# Altium schematic symbol library Connectors.SchLib: 60 symbols (part 1 of 3)
Pins are listed as number, name and electrical type; pins without a type are passive.

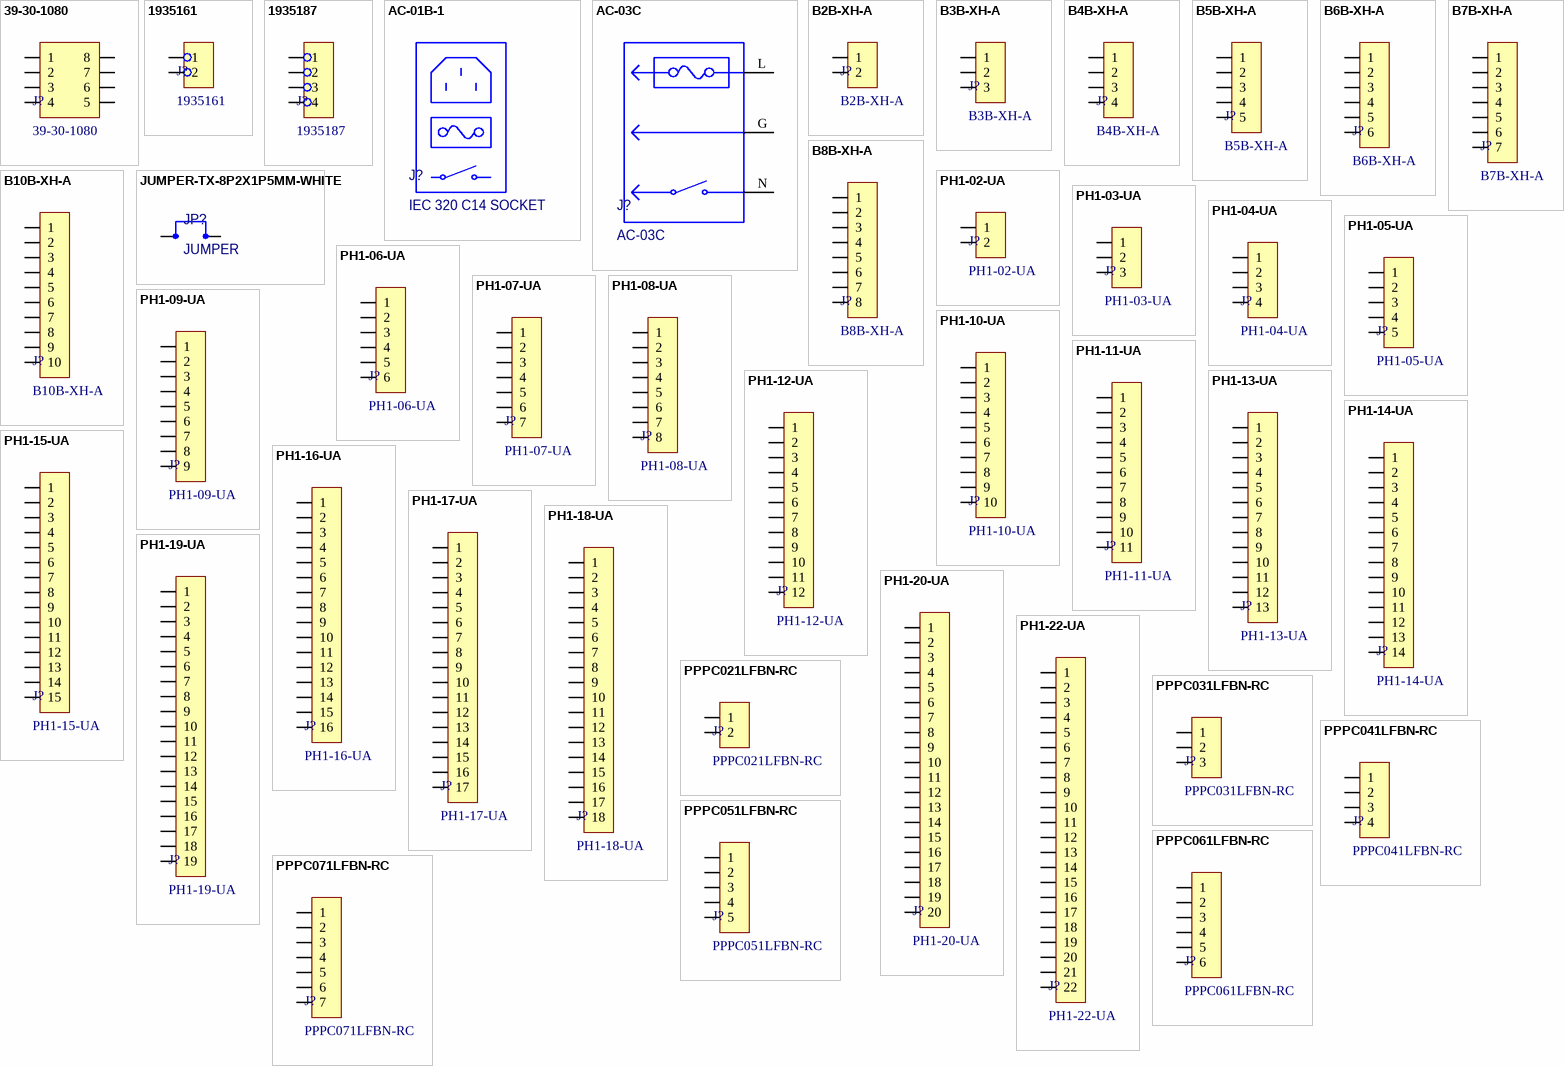
[diagram p0: symbols 39-30-1080 to PPPC071LFBN-RC]

## 39-30-1080
designator J?
CONN HEADER R/A 8POS 4.2MM; Manufacturer: Molex; Manufacturer Lifecycle Status: ACTIVE; Approvals: CSA, TUV, UL; Connector Type: Power, Rectangular; Contact Resistance: 10mΩ; Current Rating: 8A; Gender: Male; Glow Wire Compliant: Non-compliant; Insulation Resistance: 1GΩ; Max Current Rating: 5A; Max Voltage Rating (DC): 250V; Number of Circuits: 6; Number of Contacts: 8; Plating Thickness: 2.54µm; Voltage Rating: 600V; Supplier: DigiKey; Supplier Part Number: WM1354-ND; Manufacturer Part Number: 39-30-1080; RoHS: Compliant; Category: Headers and Wire Housings; Stock: 17537; Pricing: 1=0.78, 10=0.66, 100=0.5612, 500=0.50088, 1800=0.45757, 5400=0.42345, 10800=0.40325 (USD); China RoHS: Compliant; Color: Natural; Contact Gender: Male; Contact Material: Brass; Contact Plating: Tin; Country of Origin: US; Depth: 5.57mm; ELV: Compliant; Flammability Rating: UL94 V-2; Halogen Free: Low Halogen; Height: 9.9mm; Housing Material: Nylon; Lead Free: Lead Free; Lead Pitch: 4.2mm; Length: 15.65mm; Lifecycle Status: Production; Material: Nylon; Max Operating Temperature: 105°C; Min Operating Temperature: -40°C; Mounting Technology: PCB, Through Hole; Pins: 8; Number of Poles: 8; Number of Positions: 8; Number of Rows: 2; Orientation: Right Angle; Packaging: Bulk; Pitch: 4.2mm; Radiation Hardening: No; REACH SVHC: Yes; Row Spacing: 4.2mm; Schedule B: 8536694040, 8536694040|8536694040|8536694040|8536694040|8536694040; Termination: Solder; Voltage Rating (AC): 600V; Voltage Rating (DC): 600V; Working Voltage: 600V; ComponentLink1URL: https://datasheet.octopart.com:443/39-30-1080-Molex-datasheet-120074128.pdf?src-supplier=IHS; ComponentLink1Description: https://datasheet.octopart.com:443/39-30-1080-Molex-datasheet-120074128.pdf?src-supplier=IHS; ComponentLink2URL: https://datasheet.octopart.com:443/39-30-1080-Molex-datasheet-13785313.pdf?src-supplier=Sager+Electronics; ComponentLink2Description: https://datasheet.octopart.com:443/39-30-1080-Molex-datasheet-13785313.pdf?src-supplier=Sager+Electronics; ComponentLink3URL: https://datasheet.octopart.com:443/39-30-1080-Molex-datasheet-12555477.pdf?src-supplier=HQonline; ComponentLink3Description: https://datasheet.octopart.com:443/39-30-1080-Molex-datasheet-12555477.pdf?src-supplier=HQonline; ComponentLink4URL: https://datasheet.octopart.com:443/039301080-Molex-datasheet-8338717.pdf?src-supplier=HQonline; ComponentLink4Description: https://datasheet.octopart.com:443/039301080-Molex-datasheet-8338717.pdf?src-supplier=HQonline; ComponentLink5URL: https://sigma.octopart.com:443/15644801/technical_drawing/Molex-39-30-1080.pdf?src-supplier=Molex; ComponentLink5Description: https://sigma.octopart.com:443/15644801/technical_drawing/Molex-39-30-1080.pdf?src-supplier=Molex; ComponentLink6URL: https://datasheet.octopart.com:443/39-30-1080-Molex-datasheet-154749340.pdf?src-supplier=Master+Electronics; ComponentLink6Description: https://datasheet.octopart.com:443/39-30-1080-Molex-datasheet-154749340.pdf?src-supplier=Master+Electronics; ComponentLink7URL: https://datasheet.octopart.com:443/39-30-1080-Molex-datasheet-101582412.pdf?src-supplier=Farnell; ComponentLink7Description: https://datasheet.octopart.com:443/39-30-1080-Molex-datasheet-101582412.pdf?src-supplier=Farnell; ComponentLink8URL: https://datasheet.octopart.com:443/39-30-1080-Molex-datasheet-15687899.pdf?src-supplier=Farnell; ComponentLink8Description: https://datasheet.octopart.com:443/39-30-1080-Molex-datasheet-15687899.pdf?src-supplier=Farnell; ComponentLink9URL: https://datasheet.octopart.com:443/39-30-1080-Molex-datasheet-13550729.pdf?src-supplier=Farnell; ComponentLink9Description: https://datasheet.octopart.com:443/39-30-1080-Molex-datasheet-13550729.pdf?src-supplier=Farnell; ComponentLink10URL: https://datasheet.octopart.com:443/39-30-1080-Molex-datasheet-34223370.pdf?src-supplier=Electro+Sonic; ComponentLink10Description: https://datasheet.octopart.com:443/39-30-1080-Molex-datasheet-34223370.pdf?src-supplier=Electro+Sonic; ComponentLink11URL: https://datasheet.octopart.com:443/39-30-1080-Molex-datasheet-62104202.pdf?src-supplier=Electro+Sonic; ComponentLink11Description: https://datasheet.octopart.com:443/39-30-1080-Molex-datasheet-62104202.pdf?src-supplier=Electro+Sonic; ComponentLink12URL: https://datasheet.octopart.com:443/39-30-1080-Molex-datasheet-23709674.pdf?src-supplier=Electro+Sonic; ComponentLink12Description: https://datasheet.octopart.com:443/39-30-1080-Molex-datasheet-23709674.pdf?src-supplier=Electro+Sonic; ComponentLink13URL: https://datasheet.octopart.com:443/39-30-1080-Molex-datasheet-140183179.pdf?src-supplier=RS+(Formerly+Allied+Electronics); ComponentLink13Description: https://datasheet.octopart.com:443/39-30-1080-Molex-datasheet-140183179.pdf?src-supplier=RS+(Formerly+Allied+Electronics); ComponentLink14URL: https://datasheet.octopart.com:443/39-30-1080-Molex-datasheet-120148733.pdf?src-supplier=RS+(Formerly+Allied+Electronics); ComponentLink14Description: https://datasheet.octopart.com:443/39-30-1080-Molex-datasheet-120148733.pdf?src-supplier=RS+(Formerly+Allied+Electronics); ComponentLink15URL: https://datasheet.octopart.com:443/39-30-1080-Molex-datasheet-34442213.pdf?src-supplier=RS+(Formerly+Allied+Electronics); ComponentLink15Description: https://datasheet.octopart.com:443/39-30-1080-Molex-datasheet-34442213.pdf?src-supplier=RS+(Formerly+Allied+Electronics); ComponentLink16URL: https://datasheet.octopart.com:443/39-30-1080-Molex-datasheet-9783732.pdf?src-supplier=RS+(Formerly+Allied+Electronics); ComponentLink16Description: https://datasheet.octopart.com:443/39-30-1080-Molex-datasheet-9783732.pdf?src-supplier=RS+(Formerly+Allied+Electronics); ComponentLink17URL: https://datasheet.octopart.com:443/39-30-1080-Molex-datasheet-72655.pdf?src-supplier=RS+(Formerly+Allied+Electronics); ComponentLink17Description: https://datasheet.octopart.com:443/39-30-1080-Molex-datasheet-72655.pdf?src-supplier=RS+(Formerly+Allied+Electronics); ComponentLink18URL: https://datasheet.octopart.com:443/39-30-1080-Molex-datasheet-156091078.pdf?src-supplier=Jameco; ComponentLink18Description: https://datasheet.octopart.com:443/39-30-1080-Molex-datasheet-156091078.pdf?src-supplier=Jameco; ComponentLink19URL: https://datasheet.octopart.com:443/39301080-Molex-datasheet-8197183.pdf?src-supplier=Jameco; ComponentLink19Description: https://datasheet.octopart.com:443/39301080-Molex-datasheet-8197183.pdf?src-supplier=Jameco; ComponentLink20URL: https://datasheet.octopart.com:443/39-30-1080-Molex-datasheet-7269772.pdf?src-supplier=Jameco; ComponentLink20Description: https://datasheet.octopart.com:443/39-30-1080-Molex-datasheet-7269772.pdf?src-supplier=Jameco; ComponentLink21URL: https://datasheet.octopart.com:443/39301080-Molex-datasheet-137316104.pdf?src-supplier=Future+Electronics; ComponentLink21Description: https://datasheet.octopart.com:443/39301080-Molex-datasheet-137316104.pdf?src-supplier=Future+Electronics; ComponentLink22URL: https://datasheet.octopart.com:443/39-30-1080-Molex-datasheet-33002877.pdf?src-supplier=Newark; ComponentLink22Description: https://datasheet.octopart.com:443/39-30-1080-Molex-datasheet-33002877.pdf?src-supplier=Newark; ComponentLink23URL: https://datasheet.octopart.com:443/39-30-1080-Molex-datasheet-21207490.pdf?src-supplier=Newark; ComponentLink23Description: https://datasheet.octopart.com:443/39-30-1080-Molex-datasheet-21207490.pdf?src-supplier=Newark; ComponentLink24URL: https://datasheet.octopart.com:443/39-30-1080-Molex-datasheet-2405.pdf?src-supplier=Newark; ComponentLink24Description: https://datasheet.octopart.com:443/39-30-1080-Molex-datasheet-2405.pdf?src-supplier=Newark; ComponentLink25URL: https://datasheet.octopart.com:443/39-30-1080-Molex-datasheet-21395541.pdf?src-supplier=TME; ComponentLink25Description: https://datasheet.octopart.com:443/39-30-1080-Molex-datasheet-21395541.pdf?src-supplier=TME; ComponentLink26URL: https://datasheet.octopart.com:443/39-30-1080-Molex-datasheet-8361750.pdf?src-supplier=Verical; ComponentLink26Description: https://datasheet.octopart.com:443/39-30-1080-Molex-datasheet-8361750.pdf?src-supplier=Verical; ComponentLink27URL: https://datasheet.octopart.com:443/39-30-1080-Molex-datasheet-145504.pdf?src-supplier=DigiKey; ComponentLink27Description: https://datasheet.octopart.com:443/39-30-1080-Molex-datasheet-145504.pdf?src-supplier=DigiKey; ComponentLink28URL: http://sigma.octopart.com:80/15645381/rohs_certificate/Molex-39-30-1080.pdf?src-supplier=Compliance+Statements; ComponentLink28Description: http://sigma.octopart.com:80/15645381/rohs_certificate/Molex-39-30-1080.pdf?src-supplier=Compliance+Statements; ComponentLink29URL: http://sigma.octopart.com:80/reach_statement/Molex-company-74.pdf?src-supplier=Compliance+Statements; ComponentLink29Description: http://sigma.octopart.com:80/reach_statement/Molex-company-74.pdf?src-supplier=Compliance+Statements; ComponentLink30URL: http://sigma.octopart.com:80/rohs_statement/Molex-company-73.pdf?src-supplier=Compliance+Statements; ComponentLink30Description: http://sigma.octopart.com:80/rohs_statement/Molex-company-73.pdf?src-supplier=Compliance+Statements; ComponentLink31URL: http://sigma.octopart.com:80/conflict_mineral_statement/Molex-company-72.pdf?src-supplier=Compliance+Statements; ComponentLink31Description: http://sigma.octopart.com:80/conflict_mineral_statement/Molex-company-72.pdf?src-supplier=Compliance+Statements
footprint CON_5569_2X4
pins: 1, 2, 3, 4, 5, 6, 7, 8

## 1935161
designator J?
TERM BLK 2POS SIDE ENTRY 5MM PCB; Manufacturer: Phoenix Contact; Fastening Method: SCREW; Number of Decks: 1; Number of Ways: 2; Current Rating: 17.5A; Voltage Rating: 250V; Wire Cross Section: 1.5mm2; Wire/Cable Gauge: 14AWG; Safety Approval: UL; Supplier: Digikey; Supplier Part Number: 277-1667-ND; Manufacturer Part Number: 1935161; RoHS: Yes; Category: Terminal Blocks; Stock: 69926; Pricing: 1=0.5, 10=0.476, 50=0.4554, 100=0.443, 250=0.414, 500=0.38088, 1000=0.37375 (USD); Mounting Technology: Board; Terminal and Terminal Block Type: BARRIER STRIP TERMINAL BLOCK; Number of Rows: 1; RoHS Compliant: Yes; Reach SVHC Compliant: No; ComponentLink1URL: https://datasheet.ciiva.com:443/pdfs/VipMasterIC/IC/PCON/PCON-S-A0007661889/PCON-S-A0008048682-1.pdf?src-supplier=IHS+Markit; ComponentLink1Description: https://datasheet.ciiva.com:443/pdfs/VipMasterIC/IC/PCON/PCON-S-A0007661889/PCON-S-A0008048682-1.pdf?src-supplier=IHS+Markit; ComponentLink2URL: https://datasheet.ciiva.com/16047/1935161-16047247.pdf?src-supplier=Onlinecomponents.com; ComponentLink2Description: https://datasheet.ciiva.com/16047/1935161-16047247.pdf?src-supplier=Onlinecomponents.com; ComponentLink3URL: https://datasheet.ciiva.com/15169/getdatasheetpartid-177903-15169663.pdf?src-supplier=Verical; ComponentLink3Description: https://datasheet.ciiva.com/15169/getdatasheetpartid-177903-15169663.pdf?src-supplier=Verical; ComponentLink4URL: https://datasheet.ciiva.com/824/combiconcompact5-0mmseries-824222.pdf?src-supplier=Digikey; ComponentLink4Description: https://datasheet.ciiva.com/824/combiconcompact5-0mmseries-824222.pdf?src-supplier=Digikey
footprint CON_TERM_2P_5MM_PITCH
pins: 1, 2

## 1935187
designator J?
TERM BLK 4POS SIDE ENTRY 5MM PCB; Manufacturer: Phoenix Contact; Number of Contacts: 4; Max Current Rating: 16A; Voltage Rating: 250V; Current Rating: 17.5A; Number of Levels: 1; Current: 18A; Voltage: 300V; Voltage Rating (DC): 508mV; Wire/Cable Gauge: 26AWG; Wire Gauge (Min): 12AWG; Approvals: UL,VDE,CB,EAC; Supplier: Digikey; Supplier Part Number: 277-1579-ND; Manufacturer Part Number: 1935187; RoHS: Yes; Category: Terminal Blocks; Stock: 15505; Pricing: 1=0.98, 10=0.942, 50=0.901, 100=0.8763, 250=0.819, 500=0.75348, 1000=0.73938 (USD); Mounting Technology: Through Hole; Pins: 4; Contact Material: Copper,Tin; Contact Plating: 154ConductorMaterial; Housing Material: Polyamide; Color: Green; Weight: 0.134041oz; Material: Nylon; Housing Color: Green; Insulation Material: Nylon; Termination: Screw; Orientation: Straight; Package Quantity: 250; Packaging: Bulk; Number of Positions: 4; Series: COMBICON PT; Number of Rows: 1; Max Supply Voltage: 250V; Number of Poles: 4; Number of Positions Per Level: 4; Number of Circuits: 4; Number of Ways: 4; Length: 9mm; Width: 20mm; Height: 11.3mm; Wire Gauge (Max): 26AWG; Depth: 9mm; Pitch: 5mm; Stripping Length: 5mm; Radiation Hardening: No; Lead Free: Lead Free; Flammability Rating: UL94 V-0; Reach SVHC Compliant: Unknown; RoHS Compliant: Yes; ComponentLink1URL: https://datasheet.ciiva.com/16047/1935187-16047251.pdf?src-supplier=Onlinecomponents.com; ComponentLink1Description: https://datasheet.ciiva.com/16047/1935187-16047251.pdf?src-supplier=Onlinecomponents.com; ComponentLink2URL: https://datasheet.ciiva.com/823/combiconcompact5-0mmseries-823770.pdf?src-supplier=Digikey; ComponentLink2Description: https://datasheet.ciiva.com/823/combiconcompact5-0mmseries-823770.pdf?src-supplier=Digikey
footprint CON_TERM_4P_5MM_PITCH
pins: 1, 2, 3, 4

## AC-01B-1
designator J?, comment IEC 320 C14 SOCKET  (mechanical)
Manufacturer Part Number: AC-01B-1; Manufacturer: OEM

## AC-03C
designator J?
PWR ENT MOD RCPT IEC320-C14 PNL
footprint AC-INPUT-3MM-HOLE
pins: G, L, N

## B2B-XH-A
designator J?
CONN HEADER VERT 2POS 2.5MM; Manufacturer: JST; Contact Resistance: 20mΩ; Current Rating: 3A; Insulation Resistance: 1GΩ; Supplier: DigiKey; Supplier Part Number: 455-B2B-XH-A-ND; Manufacturer Part Number: B2B-XH-A; RoHS: Compliant; Category: Card Edge Connectors; Stock: 116847; Pricing: 1=0.1, 10=0.073, 100=0.0618, 500=0.05514, 1000=0.05251, 5000=0.04686, 10000=0.04463 (USD); Contact Gender: Male; Contact Material: Brass; Housing Material: Nylon; Lifecycle Status: Production; Max Operating Temperature: 85°C; Min Operating Temperature: -25°C; Pins: 2; Number of Rows: 1; Orientation: Straight; Terminal Pitch: 2.5mm; ComponentLink1URL: https://datasheet.octopart.com:443/B2B-XH-A-JST-datasheet-157850277.pdf?src-supplier=IHS; ComponentLink1Description: https://datasheet.octopart.com:443/B2B-XH-A-JST-datasheet-157850277.pdf?src-supplier=IHS; ComponentLink2URL: https://datasheet.octopart.com:443/B2B-XH-A-JST-datasheet-10026044.pdf?src-supplier=TME; ComponentLink2Description: https://datasheet.octopart.com:443/B2B-XH-A-JST-datasheet-10026044.pdf?src-supplier=TME
footprint JST-B2B-XH-A
pins: 1, 2

## B3B-XH-A
designator J?
CONN HEADER VERT 3POS 2.5MM; Manufacturer: JST; Contact Resistance: 20mΩ; Current Rating: 3A; Insulation Resistance: 1GΩ; Number of Contacts: 3; Voltage Rating: 250V; Supplier: DigiKey; Supplier Part Number: 455-2248-ND; Manufacturer Part Number: B3B-XH-A; RoHS: Compliant; Category: Card Edge Connectors; Stock: 39227; Pricing: 1=0.11, 10=0.092, 100=0.0777, 500=0.06938, 1000=0.06605, 5000=0.05895, 10000=0.05614 (USD); Contact Gender: Male; Contact Material: Tin; Height: 7mm; Housing Material: Nylon; Lifecycle Status: Production; Max Operating Temperature: 85°C; Min Operating Temperature: -25°C; Pins: 3; Number of Rows: 1; Orientation: Straight; Terminal Pitch: 2.5mm; ComponentLink1URL: https://datasheet.octopart.com:443/B3B-XH-A-JST-datasheet-12510042.pdf?src-supplier=Upverter; ComponentLink1Description: https://datasheet.octopart.com:443/B3B-XH-A-JST-datasheet-12510042.pdf?src-supplier=Upverter; ComponentLink2URL: https://datasheet.octopart.com:443/B3B-XH-A-JST-datasheet-157850277.pdf?src-supplier=IHS; ComponentLink2Description: https://datasheet.octopart.com:443/B3B-XH-A-JST-datasheet-157850277.pdf?src-supplier=IHS; ComponentLink3URL: https://datasheet.octopart.com:443/B3B-XH-A-JST-datasheet-10026044.pdf?src-supplier=TME; ComponentLink3Description: https://datasheet.octopart.com:443/B3B-XH-A-JST-datasheet-10026044.pdf?src-supplier=TME
footprint JST-B3B-XH-A
pins: 1, 2, 3

## B4B-XH-A
designator J?
CONN HEADER VERT 4POS 2.5MM; Manufacturer: JST; Contact Resistance: 20mΩ; Current Rating: 3A; Insulation Resistance: 1GΩ; Supplier: DigiKey; Supplier Part Number: 455-B4B-XH-A-ND; Manufacturer Part Number: B4B-XH-A; RoHS: Compliant; Category: Card Edge Connectors; Stock: 50423; Pricing: 1=0.14, 10=0.12, 100=0.1021, 500=0.09114, 1000=0.08679, 5000=0.07746, 10000=0.07376 (USD); Contact Gender: Male; Contact Material: Bronze, Tin; Housing Material: Nylon; Lifecycle Status: Production; Max Operating Temperature: 85°C; Min Operating Temperature: -25°C; Pins: 4; Number of Rows: 1; Orientation: Straight; Terminal Pitch: 2.5mm; ComponentLink1URL: https://datasheet.octopart.com:443/B4B-XH-A-JST-datasheet-157850277.pdf?src-supplier=IHS; ComponentLink1Description: https://datasheet.octopart.com:443/B4B-XH-A-JST-datasheet-157850277.pdf?src-supplier=IHS; ComponentLink2URL: https://datasheet.octopart.com:443/B4B-XH-A-JST-datasheet-10026044.pdf?src-supplier=TME; ComponentLink2Description: https://datasheet.octopart.com:443/B4B-XH-A-JST-datasheet-10026044.pdf?src-supplier=TME
footprint JST-B4B-XH-A
pins: 1, 2, 3, 4

## B5B-XH-A
designator J?
CONN HEADER VERT 5POS 2.5MM; Manufacturer: JST; Contact Resistance: 20mΩ; Current Rating: 3A; Insulation Resistance: 1GΩ; Supplier: DigiKey; Supplier Part Number: 455-B5B-XH-A-ND; Manufacturer Part Number: B5B-XH-A; RoHS: Compliant; Category: Card Edge Connectors; Stock: 130794; Pricing: 1=0.17, 10=0.144, 100=0.1225, 500=0.10932, 1000=0.10409, 5000=0.0929, 10000=0.08847 (USD); Contact Gender: Male; Contact Material: Bronze, Tin; Housing Material: Nylon; Lifecycle Status: Production; Max Operating Temperature: 85°C; Min Operating Temperature: -25°C; Pins: 5; Number of Rows: 1; Orientation: Straight; Terminal Pitch: 2.5mm; ComponentLink1URL: https://datasheet.octopart.com:443/B5B-XH-A-JST-datasheet-157850277.pdf?src-supplier=IHS; ComponentLink1Description: https://datasheet.octopart.com:443/B5B-XH-A-JST-datasheet-157850277.pdf?src-supplier=IHS; ComponentLink2URL: https://datasheet.octopart.com:443/B5B-XH-A-JST-datasheet-10026044.pdf?src-supplier=TME; ComponentLink2Description: https://datasheet.octopart.com:443/B5B-XH-A-JST-datasheet-10026044.pdf?src-supplier=TME
footprint JST-B5B-XH-A
pins: 1, 2, 3, 4, 5

## B6B-XH-A
designator J?
CONN HEADER VERT 6POS 2.5MM; Manufacturer: JST; Connector Type: Male Pin; Contact Resistance: 20mΩ; Current Rating: 3A; Insulation Resistance: 1GΩ; Number of Contacts: 6; Pitch: 2.4892mm; Voltage Rating: 250V; Supplier: DigiKey; Supplier Part Number: 455-B6B-XH-A-ND; Manufacturer Part Number: B6B-XH-A; RoHS: Compliant; Category: Headers and Wire Housings; Stock: 26613; Pricing: 1=0.2, 10=0.166, 100=0.141, 500=0.12586, 1000=0.11985, 5000=0.10697, 10000=0.10187 (USD); Color: Natural; Contact Gender: Male; Contact Material: Copper, Tin; Contact Plating: Lead, Tin; Fastening Type: Detent; Height: 7mm; Housing Color: Natural; Housing Material: Nylon; Lead Free: Contains Lead; Lifecycle Status: Production; Max Operating Temperature: 85°C; Manufacturer Package Identifier: B6B-XH-A; Min Operating Temperature: -25°C; Mounting Technology: Through Hole; Pins: 6; Number of Positions: 6; Number of Rows: 1; Orientation: Straight; Packaging: Bulk; Terminal Pitch: 2.5mm; Termination: Press-Fit; ComponentLink1URL: https://datasheet.octopart.com:443/B6B-XH-A-JST-datasheet-13551090.pdf?src-supplier=Upverter; ComponentLink1Description: https://datasheet.octopart.com:443/B6B-XH-A-JST-datasheet-13551090.pdf?src-supplier=Upverter; ComponentLink2URL: https://datasheet.octopart.com:443/B6B-XH-A-JST-datasheet-12516791.pdf?src-supplier=Upverter; ComponentLink2Description: https://datasheet.octopart.com:443/B6B-XH-A-JST-datasheet-12516791.pdf?src-supplier=Upverter; ComponentLink3URL: https://datasheet.octopart.com:443/B6B-XH-A-JST-datasheet-157850277.pdf?src-supplier=IHS; ComponentLink3Description: https://datasheet.octopart.com:443/B6B-XH-A-JST-datasheet-157850277.pdf?src-supplier=IHS; ComponentLink4URL: https://datasheet.octopart.com:443/B6B-XH-A-JST-datasheet-140264791.pdf?src-supplier=LKR; ComponentLink4Description: https://datasheet.octopart.com:443/B6B-XH-A-JST-datasheet-140264791.pdf?src-supplier=LKR; ComponentLink5URL: https://datasheet.octopart.com:443/B6B-XH-A-JST-datasheet-10026044.pdf?src-supplier=TME; ComponentLink5Description: https://datasheet.octopart.com:443/B6B-XH-A-JST-datasheet-10026044.pdf?src-supplier=TME
footprint JST-B6B-XH-A
pins: 1, 2, 3, 4, 5, 6

## B7B-XH-A
designator J?
CONN HEADER VERT 7POS 2.5MM; Manufacturer: JST; Contact Resistance: 20mΩ; Current Rating: 3A; Insulation Resistance: 1GΩ; Supplier: DigiKey; Supplier Part Number: 455-B7B-XH-A-ND; Manufacturer Part Number: B7B-XH-A; RoHS: Compliant; Category: Card Edge Connectors; Stock: 129225; Pricing: 1=0.23, 10=0.195, 100=0.1657, 500=0.14788, 1000=0.14081, 5000=0.12568, 10000=0.11968 (USD); Contact Gender: Male; Contact Material: Bronze, Tin; Housing Material: Nylon; Lead Free: Contains Lead; Lifecycle Status: Production; Max Operating Temperature: 85°C; Min Operating Temperature: -25°C; Pins: 7; Number of Rows: 1; Orientation: Straight; Terminal Pitch: 2.5mm; ComponentLink1URL: https://datasheet.octopart.com:443/B7B-XH-A-JST-datasheet-157850277.pdf?src-supplier=IHS; ComponentLink1Description: https://datasheet.octopart.com:443/B7B-XH-A-JST-datasheet-157850277.pdf?src-supplier=IHS; ComponentLink2URL: https://datasheet.octopart.com:443/B7B-XH-A-JST-datasheet-10026044.pdf?src-supplier=TME; ComponentLink2Description: https://datasheet.octopart.com:443/B7B-XH-A-JST-datasheet-10026044.pdf?src-supplier=TME
footprint JST-B7B-XH-A
pins: 1, 2, 3, 4, 5, 6, 7

## B8B-XH-A
designator J?
CONN HEADER VERT 8POS 2.5MM; Manufacturer: JST; Contact Resistance: 20mΩ; Current Rating: 3A; Insulation Resistance: 1GΩ; Supplier: DigiKey; Supplier Part Number: 455-B8B-XH-A-ND; Manufacturer Part Number: B8B-XH-A; RoHS: Compliant; Category: Card Edge Connectors; Stock: 5417; Pricing: 1=0.25, 10=0.214, 250=0.1704, 500=0.16226, 1000=0.1545, 5000=0.1379, 10000=0.13132 (USD); Contact Gender: Male; Contact Material: Bronze, Tin; Housing Material: Nylon; Lifecycle Status: Production; Max Operating Temperature: 85°C; Min Operating Temperature: -25°C; Pins: 8; Number of Rows: 1; Orientation: Straight; Terminal Pitch: 2.5mm; ComponentLink1URL: https://datasheet.octopart.com:443/B8B-XH-A-JST-datasheet-157850277.pdf?src-supplier=IHS; ComponentLink1Description: https://datasheet.octopart.com:443/B8B-XH-A-JST-datasheet-157850277.pdf?src-supplier=IHS; ComponentLink2URL: https://datasheet.octopart.com:443/B8B-XH-A-JST-datasheet-10026044.pdf?src-supplier=TME; ComponentLink2Description: https://datasheet.octopart.com:443/B8B-XH-A-JST-datasheet-10026044.pdf?src-supplier=TME
footprint JST-B8B-XH-A
pins: 1, 2, 3, 4, 5, 6, 7, 8

## B10B-XH-A
designator J?
CONN HEADER VERT 10POS 2.5MM; Manufacturer: JST; Contact Resistance: 20mΩ; Current Rating: 3A; Insulation Resistance: 1GΩ; Supplier: DigiKey; Supplier Part Number: 455-B10B-XH-A-ND; Manufacturer Part Number: B10B-XH-A; RoHS: Compliant; Category: Card Edge Connectors; Stock: 6118; Pricing: 1=0.32, 10=0.273, 250=0.2172, 500=0.2068, 1000=0.19692, 5000=0.17577, 10000=0.16738 (USD); Contact Gender: Male; Contact Material: Bronze, Tin; Housing Material: Nylon; Lifecycle Status: Production; Max Operating Temperature: 85°C; Min Operating Temperature: -25°C; Pins: 10; Number of Rows: 1; Orientation: Straight; Terminal Pitch: 2.5mm; ComponentLink1URL: https://datasheet.octopart.com:443/B10B-XH-A-JST-datasheet-157850277.pdf?src-supplier=IHS; ComponentLink1Description: https://datasheet.octopart.com:443/B10B-XH-A-JST-datasheet-157850277.pdf?src-supplier=IHS
footprint JST-B10B-XH-A
pins: 1, 2, 3, 4, 5, 6, 7, 8, 9, 10

## JUMPER-TX-8P2X1P5MM-WHITE
designator JP?, comment JUMPER
JUMPER SMD TX 8.2X1.5MM WHITE; Manufacturer: OEM; Manufacturer Part Number: None
footprint JUMPER_TX_8P2MM
pins: 1, 2

## PH1-02-UA
designator J?
CONN HEADER VERT 2POS 2.54MM; Manufacturer: Adam Equipment; Supplier: Digikey; Supplier Part Number: 2057-PH1-02-UA-ND; Manufacturer Part Number: PH1-02-UA; RoHS: Yes; Category: Connectors; Stock: 110214; Pricing: 1=0.1, 10=0.032, 100=0.0244, 500=0.02018, 1000=0.01863, 5000=0.01554, 10000=0.0144 (USD); ComponentLink1URL: https://datasheet.ciiva.com/16392/ph1-xx-ua-16392701.pdf?src-supplier=Future+Electronics; ComponentLink1Description: https://datasheet.ciiva.com/16392/ph1-xx-ua-16392701.pdf?src-supplier=Future+Electronics; ComponentLink2URL: https://datasheet.ciiva.com/5160/page-292-295-12946-5160830.pdf?src-supplier=Mouser; ComponentLink2Description: https://datasheet.ciiva.com/5160/page-292-295-12946-5160830.pdf?src-supplier=Mouser
footprint CON_HDR_MAL_VERT_2P_2P54_PITCH
pins: 1, 2

## PH1-03-UA
designator J?
CONN HEADER VERT 3POS 2.54MM; Manufacturer: Adam Equipment; Supplier: Digikey; Supplier Part Number: 2057-PH1-03-UA-ND; Manufacturer Part Number: PH1-03-UA; RoHS: Yes; Category: Headers and Wire Housings; Stock: 33737; Pricing: 1=0.1, 10=0.037, 100=0.0311, 500=0.02772, 1000=0.0264, 5000=0.02356, 10000=0.02243 (USD); ComponentLink1URL: https://datasheet.ciiva.com/16396/catpg240-254-16396026.pdf?src-supplier=Future+Electronics; ComponentLink1Description: https://datasheet.ciiva.com/16396/catpg240-254-16396026.pdf?src-supplier=Future+Electronics
footprint CON_HDR_MAL_VERT_3P_2P54_PITCH
pins: 1, 2, 3

## PH1-04-UA
designator J?
CONN HEADER VERT 4POS 2.54MM; Manufacturer: Adam Tech; Contact Resistance: 20mΩ; Current Rating: 3A; Insulation Resistance: 5GΩ; Number of Positions: 4; Supplier: DigiKey; Supplier Part Number: 2057-PH1-04-UA-ND; Manufacturer Part Number: PH1-04-UA; RoHS: Compliant; Category: Card Edge Connectors; Stock: 26184; Pricing: 1=0.1, 10=0.05, 100=0.0424, 500=0.03784, 1000=0.03602, 5000=0.03215, 10000=0.03061 (USD); Contact Gender: Male; Contact Material: Brass; Lead Free: Lead Free; Lifecycle Status: Production; Pins: 4; Number of Rows: 1; Pitch: 2.54mm; REACH SVHC: Yes; Terminal Pitch: 2.54mm; Termination: Through Hole; ComponentLink1URL: https://datasheet.octopart.com:443/PH1-04-UA-Adam-Tech-datasheet-21182886.pdf?src-supplier=IHS; ComponentLink1Description: https://datasheet.octopart.com:443/PH1-04-UA-Adam-Tech-datasheet-21182886.pdf?src-supplier=IHS; ComponentLink2URL: https://datasheet.octopart.com:443/PH1-04-UA-Adam-Tech-datasheet-12339966.pdf?src-supplier=Future+Electronics; ComponentLink2Description: https://datasheet.octopart.com:443/PH1-04-UA-Adam-Tech-datasheet-12339966.pdf?src-supplier=Future+Electronics; ComponentLink3URL: https://datasheet.octopart.com:443/PH1-04-UA-Adam-Tech-datasheet-502038.pdf?src-supplier=Future+Electronics; ComponentLink3Description: https://datasheet.octopart.com:443/PH1-04-UA-Adam-Tech-datasheet-502038.pdf?src-supplier=Future+Electronics; ComponentLink4URL: https://datasheet.octopart.com:443/PH1-04-UA-Adam-Tech-datasheet-189096092.pdf?src-supplier=Master+Electronics; ComponentLink4Description: https://datasheet.octopart.com:443/PH1-04-UA-Adam-Tech-datasheet-189096092.pdf?src-supplier=Master+Electronics; ComponentLink5URL: http://sigma.octopart.com:80/reach_statement/Adam-Tech-company-23.pdf?src-supplier=Compliance+Statements; ComponentLink5Description: http://sigma.octopart.com:80/reach_statement/Adam-Tech-company-23.pdf?src-supplier=Compliance+Statements; ComponentLink6URL: http://sigma.octopart.com:80/rohs_statement/Adam-Tech-company-22.pdf?src-supplier=Compliance+Statements; ComponentLink6Description: http://sigma.octopart.com:80/rohs_statement/Adam-Tech-company-22.pdf?src-supplier=Compliance+Statements
footprint CON_HDR_MAL_VERT_4P_2P54_PITCH
pins: 1, 2, 3, 4

## PH1-05-UA
designator J?
CONN HEADER VERT 5POS 2.54MM; Manufacturer: Adam Tech; Contact Resistance: 20mΩ; Current Rating: 3A; Insulation Resistance: 5GΩ; Number of Positions: 5; Supplier: DigiKey; Supplier Part Number: 2057-PH1-05-UA-ND; Manufacturer Part Number: PH1-05-UA; RoHS: Compliant; Category: Card Edge Connectors; Stock: 16358; Pricing: 1=0.1, 10=0.071, 100=0.0603, 500=0.05382, 1000=0.05125, 5000=0.04574, 10000=0.04355 (USD); Contact Gender: Male; Contact Material: Brass; Lead Free: Lead Free; Lifecycle Status: Production; Mounting Technology: Through Hole; Pins: 5; Number of Rows: 1; Pitch: 2.54mm; REACH SVHC: Yes; Schedule B: 8536694040, 8536694040|8536694040|8536694040|8536694040|8536694040; Terminal Pitch: 2.54mm; ComponentLink1URL: https://datasheet.octopart.com:443/PH1-05-UA-Adam-Tech-datasheet-21182886.pdf?src-supplier=IHS; ComponentLink1Description: https://datasheet.octopart.com:443/PH1-05-UA-Adam-Tech-datasheet-21182886.pdf?src-supplier=IHS; ComponentLink2URL: https://datasheet.octopart.com:443/PH1-05-UA-Adam-Tech-datasheet-500427.pdf?src-supplier=Future+Electronics; ComponentLink2Description: https://datasheet.octopart.com:443/PH1-05-UA-Adam-Tech-datasheet-500427.pdf?src-supplier=Future+Electronics; ComponentLink3URL: https://datasheet.octopart.com:443/PH1-05-UA-Adam-Tech-datasheet-189096092.pdf?src-supplier=Master+Electronics; ComponentLink3Description: https://datasheet.octopart.com:443/PH1-05-UA-Adam-Tech-datasheet-189096092.pdf?src-supplier=Master+Electronics; ComponentLink4URL: http://sigma.octopart.com:80/rohs_statement/Adam-Tech-company-22.pdf?src-supplier=Compliance+Statements; ComponentLink4Description: http://sigma.octopart.com:80/rohs_statement/Adam-Tech-company-22.pdf?src-supplier=Compliance+Statements; ComponentLink5URL: http://sigma.octopart.com:80/reach_statement/Adam-Tech-company-23.pdf?src-supplier=Compliance+Statements; ComponentLink5Description: http://sigma.octopart.com:80/reach_statement/Adam-Tech-company-23.pdf?src-supplier=Compliance+Statements
footprint CON_HDR_MAL_VERT_5P_2P54_PITCH
pins: 1, 2, 3, 4, 5

## PH1-06-UA
designator J?
CONN HEADER VERT 6POS 2.54MM; Manufacturer: Adam Tech; Contact Resistance: 20mΩ; Current Rating: 3A; Insulation Resistance: 5GΩ; Number of Contacts: 6; Supplier: DigiKey; Supplier Part Number: 2057-PH1-06-UA-ND; Manufacturer Part Number: PH1-06-UA; RoHS: Compliant; Category: Card Edge Connectors; Stock: 7020; Pricing: 1=0.1, 10=0.071, 100=0.0603, 500=0.05382, 1000=0.05125, 5000=0.04574, 10000=0.04355 (USD); Contact Gender: Male; Contact Material: Brass; Contact Plating: Gold; Lead Free: Lead Free; Lifecycle Status: Production; Mounting Technology: Through Hole; Pins: 6; Number of Positions: 6; Number of Rows: 1; Pitch: 2.54mm; REACH SVHC: Yes; Terminal Pitch: 2.54mm; ComponentLink1URL: https://datasheet.octopart.com:443/PH1-06-UA-Adam-Tech-datasheet-21182886.pdf?src-supplier=IHS; ComponentLink1Description: https://datasheet.octopart.com:443/PH1-06-UA-Adam-Tech-datasheet-21182886.pdf?src-supplier=IHS; ComponentLink2URL: https://datasheet.octopart.com:443/PH1-06-UA-Adam-Tech-datasheet-12510360.pdf?src-supplier=Future+Electronics; ComponentLink2Description: https://datasheet.octopart.com:443/PH1-06-UA-Adam-Tech-datasheet-12510360.pdf?src-supplier=Future+Electronics; ComponentLink3URL: https://datasheet.octopart.com:443/PH1-06-UA-Adam-Tech-datasheet-502038.pdf?src-supplier=Future+Electronics; ComponentLink3Description: https://datasheet.octopart.com:443/PH1-06-UA-Adam-Tech-datasheet-502038.pdf?src-supplier=Future+Electronics; ComponentLink4URL: https://datasheet.octopart.com:443/PH1-06-UA-Adam-Tech-datasheet-189096092.pdf?src-supplier=Master+Electronics; ComponentLink4Description: https://datasheet.octopart.com:443/PH1-06-UA-Adam-Tech-datasheet-189096092.pdf?src-supplier=Master+Electronics; ComponentLink5URL: http://sigma.octopart.com:80/reach_statement/Adam-Tech-company-23.pdf?src-supplier=Compliance+Statements; ComponentLink5Description: http://sigma.octopart.com:80/reach_statement/Adam-Tech-company-23.pdf?src-supplier=Compliance+Statements; ComponentLink6URL: http://sigma.octopart.com:80/rohs_statement/Adam-Tech-company-22.pdf?src-supplier=Compliance+Statements; ComponentLink6Description: http://sigma.octopart.com:80/rohs_statement/Adam-Tech-company-22.pdf?src-supplier=Compliance+Statements
footprint CON_HDR_MAL_VERT_6P_2P54_PITCH
pins: 1, 2, 3, 4, 5, 6

## PH1-07-UA
designator J?
CONN HEADER VERT 7POS 2.54MM; Manufacturer: Adam Tech; Contact Resistance: 20mΩ; Current Rating: 3A; Insulation Resistance: 5GΩ; Number of Contacts: 7; Supplier: DigiKey; Supplier Part Number: 2057-PH1-07-UA-ND; Manufacturer Part Number: PH1-07-UA; RoHS: Compliant; Category: Card Edge Connectors; Stock: 22626; Pricing: 1=0.1, 10=0.085, 100=0.0719, 500=0.06416, 1000=0.0611, 5000=0.05453, 10000=0.05192 (USD); Contact Gender: Male; Contact Material: Brass; Contact Plating: Gold; Lead Free: Lead Free; Lifecycle Status: Production; Pins: 7; Number of Rows: 1; REACH SVHC: Yes; Schedule B: 8536694040; Terminal Pitch: 2.54mm; ComponentLink1URL: https://datasheet.octopart.com:443/PH1-07-UA-Adam-Tech-datasheet-21182886.pdf?src-supplier=IHS; ComponentLink1Description: https://datasheet.octopart.com:443/PH1-07-UA-Adam-Tech-datasheet-21182886.pdf?src-supplier=IHS; ComponentLink2URL: https://datasheet.octopart.com:443/PH1-07-UA-Adam-Tech-datasheet-502038.pdf?src-supplier=Future+Electronics; ComponentLink2Description: https://datasheet.octopart.com:443/PH1-07-UA-Adam-Tech-datasheet-502038.pdf?src-supplier=Future+Electronics; ComponentLink3URL: https://datasheet.octopart.com:443/PH1-07-UA-Adam-Tech-datasheet-189096092.pdf?src-supplier=Master+Electronics; ComponentLink3Description: https://datasheet.octopart.com:443/PH1-07-UA-Adam-Tech-datasheet-189096092.pdf?src-supplier=Master+Electronics; ComponentLink4URL: http://sigma.octopart.com:80/reach_statement/Adam-Tech-company-23.pdf?src-supplier=Compliance+Statements; ComponentLink4Description: http://sigma.octopart.com:80/reach_statement/Adam-Tech-company-23.pdf?src-supplier=Compliance+Statements; ComponentLink5URL: http://sigma.octopart.com:80/rohs_statement/Adam-Tech-company-22.pdf?src-supplier=Compliance+Statements; ComponentLink5Description: http://sigma.octopart.com:80/rohs_statement/Adam-Tech-company-22.pdf?src-supplier=Compliance+Statements
footprint CON_HDR_MAL_VERT_7P_2P54_PITCH
pins: 1, 2, 3, 4, 5, 6, 7

## PH1-08-UA
designator J?
CONN HEADER VERT 8POS 2.54MM; Manufacturer: Adam Tech; Contact Resistance: 20mΩ; Current Rating: 3A; Insulation Resistance: 5GΩ; Supplier: DigiKey; Supplier Part Number: 2057-PH1-08-UA-ND; Manufacturer Part Number: PH1-08-UA; RoHS: Compliant; Category: Card Edge Connectors; Stock: 3045; Pricing: 1=0.11, 10=0.097, 100=0.0823, 500=0.0734, 1000=0.06989, 5000=0.06237, 10000=0.05939 (USD); Contact Gender: Male; Contact Material: Brass; Lifecycle Status: Production; Pins: 8; Number of Rows: 1; REACH SVHC: Yes; Schedule B: 8536694040, 8536694040|8536694040|8536694040|8536694040|8536694040; Terminal Pitch: 2.54mm; ComponentLink1URL: https://datasheet.octopart.com:443/PH1-08-UA-Adam-Tech-datasheet-21182886.pdf?src-supplier=IHS; ComponentLink1Description: https://datasheet.octopart.com:443/PH1-08-UA-Adam-Tech-datasheet-21182886.pdf?src-supplier=IHS; ComponentLink2URL: https://datasheet.octopart.com:443/PH1-08-UA-Adam-Tech-datasheet-189096092.pdf?src-supplier=Master+Electronics; ComponentLink2Description: https://datasheet.octopart.com:443/PH1-08-UA-Adam-Tech-datasheet-189096092.pdf?src-supplier=Master+Electronics; ComponentLink3URL: http://sigma.octopart.com:80/reach_statement/Adam-Tech-company-23.pdf?src-supplier=Compliance+Statements; ComponentLink3Description: http://sigma.octopart.com:80/reach_statement/Adam-Tech-company-23.pdf?src-supplier=Compliance+Statements; ComponentLink4URL: http://sigma.octopart.com:80/rohs_statement/Adam-Tech-company-22.pdf?src-supplier=Compliance+Statements; ComponentLink4Description: http://sigma.octopart.com:80/rohs_statement/Adam-Tech-company-22.pdf?src-supplier=Compliance+Statements
footprint CON_HDR_MAL_VERT_8P_2P54_PITCH
pins: 1, 2, 3, 4, 5, 6, 7, 8

## PH1-09-UA
designator J?
CONN HEADER VERT 9POS 2.54MM; Manufacturer: Adam Tech; Contact Resistance: 20mΩ; Current Rating: 3A; Insulation Resistance: 5GΩ; Supplier: DigiKey; Supplier Part Number: 2057-PH1-09-UA-ND; Manufacturer Part Number: PH1-09-UA; RoHS: Compliant; Category: Card Edge Connectors; Stock: 11695; Pricing: 1=0.17, 10=0.144, 100=0.1221, 500=0.109, 1000=0.10379, 5000=0.09264, 10000=0.08821 (USD); Contact Gender: Male; Contact Material: Brass; Lifecycle Status: Production; Pins: 9; Number of Rows: 1; REACH SVHC: Yes; Schedule B: 8536694040, 8536694040|8536694040|8536694040|8536694040|8536694040; Terminal Pitch: 2.54mm; ComponentLink1URL: https://datasheet.octopart.com:443/PH1-09-UA-Adam-Tech-datasheet-21182886.pdf?src-supplier=IHS; ComponentLink1Description: https://datasheet.octopart.com:443/PH1-09-UA-Adam-Tech-datasheet-21182886.pdf?src-supplier=IHS; ComponentLink2URL: https://datasheet.octopart.com:443/PH1-09-UA-Adam-Tech-datasheet-189096092.pdf?src-supplier=Master+Electronics; ComponentLink2Description: https://datasheet.octopart.com:443/PH1-09-UA-Adam-Tech-datasheet-189096092.pdf?src-supplier=Master+Electronics; ComponentLink3URL: http://sigma.octopart.com:80/reach_statement/Adam-Tech-company-23.pdf?src-supplier=Compliance+Statements; ComponentLink3Description: http://sigma.octopart.com:80/reach_statement/Adam-Tech-company-23.pdf?src-supplier=Compliance+Statements; ComponentLink4URL: http://sigma.octopart.com:80/rohs_statement/Adam-Tech-company-22.pdf?src-supplier=Compliance+Statements; ComponentLink4Description: http://sigma.octopart.com:80/rohs_statement/Adam-Tech-company-22.pdf?src-supplier=Compliance+Statements
footprint CON_HDR_MAL_VERT_9P_2P54_PITCH
pins: 1, 2, 3, 4, 5, 6, 7, 8, 9

## PH1-10-UA
designator J?
CONN HEADER VERT 10POS 2.54MM; Manufacturer: Adam Equipment; Supplier: Digikey; Supplier Part Number: 2057-PH1-10-UA-ND; Manufacturer Part Number: PH1-10-UA; RoHS: Yes; Category: Connectors; Stock: 12245; Pricing: 1=0.13, 10=0.114, 100=0.0969, 500=0.08648, 1000=0.08235, 5000=0.07349, 10000=0.06999 (USD); ComponentLink1URL: https://datasheet.ciiva.com/13676/page-292-295-13676646.pdf?src-supplier=Mouser; ComponentLink1Description: https://datasheet.ciiva.com/13676/page-292-295-13676646.pdf?src-supplier=Mouser
footprint CON_HDR_MAL_VERT_10P_2P54_PITCH
pins: 1, 2, 3, 4, 5, 6, 7, 8, 9, 10

## PH1-11-UA
designator J?
CONN HEADER VERT 11POS 2.54MM; Manufacturer: Adam Tech; Contact Resistance: 20mΩ; Current Rating: 3A; Insulation Resistance: 5GΩ; Supplier: DigiKey; Supplier Part Number: 2057-PH1-11-UA-ND; Manufacturer Part Number: PH1-11-UA; RoHS: Compliant; Category: Card Edge Connectors; Stock: 2051; Pricing: 1=0.14, 10=0.122, 100=0.1032, 500=0.09212, 1000=0.08771, 5000=0.07828, 10000=0.07454 (USD); Contact Gender: Male; Contact Material: Brass; Lifecycle Status: Production; Pins: 11; Number of Rows: 1; REACH SVHC: Yes; Schedule B: 8536694040; Terminal Pitch: 2.54mm; ComponentLink1URL: https://datasheet.octopart.com:443/PH1-11-UA-Adam-Tech-datasheet-21182886.pdf?src-supplier=IHS; ComponentLink1Description: https://datasheet.octopart.com:443/PH1-11-UA-Adam-Tech-datasheet-21182886.pdf?src-supplier=IHS; ComponentLink2URL: https://datasheet.octopart.com:443/PH1-11-UA-Adam-Tech-datasheet-189096092.pdf?src-supplier=Master+Electronics; ComponentLink2Description: https://datasheet.octopart.com:443/PH1-11-UA-Adam-Tech-datasheet-189096092.pdf?src-supplier=Master+Electronics; ComponentLink3URL: http://sigma.octopart.com:80/rohs_statement/Adam-Tech-company-22.pdf?src-supplier=Compliance+Statements; ComponentLink3Description: http://sigma.octopart.com:80/rohs_statement/Adam-Tech-company-22.pdf?src-supplier=Compliance+Statements; ComponentLink4URL: http://sigma.octopart.com:80/reach_statement/Adam-Tech-company-23.pdf?src-supplier=Compliance+Statements; ComponentLink4Description: http://sigma.octopart.com:80/reach_statement/Adam-Tech-company-23.pdf?src-supplier=Compliance+Statements
footprint CON_HDR_MAL_VERT_11P_2P54_PITCH
pins: 1, 2, 3, 4, 5, 6, 7, 8, 9, 10, 11

## PH1-12-UA
designator J?
CONN HEADER VERT 12POS 2.54MM; Manufacturer: Adam Tech; Contact Resistance: 20mΩ; Current Rating: 3A; Insulation Resistance: 5GΩ; Supplier: DigiKey; Supplier Part Number: 2057-PH1-12-UA-ND; Manufacturer Part Number: PH1-12-UA; RoHS: Compliant; Category: Card Edge Connectors; Stock: 4637; Pricing: 1=0.16, 10=0.134, 100=0.1137, 500=0.10142, 1000=0.09658, 5000=0.0862, 10000=0.08208 (USD); Contact Gender: Male; Contact Material: Brass; Lead Free: Lead Free; Lifecycle Status: Production; Pins: 12; Number of Rows: 1; REACH SVHC: Yes; Terminal Pitch: 2.54mm; ComponentLink1URL: https://datasheet.octopart.com:443/PH1-12-UA-Adam-Tech-datasheet-21182886.pdf?src-supplier=IHS; ComponentLink1Description: https://datasheet.octopart.com:443/PH1-12-UA-Adam-Tech-datasheet-21182886.pdf?src-supplier=IHS; ComponentLink2URL: https://datasheet.octopart.com:443/PH1-12-UA-Adam-Tech-datasheet-12510360.pdf?src-supplier=Future+Electronics; ComponentLink2Description: https://datasheet.octopart.com:443/PH1-12-UA-Adam-Tech-datasheet-12510360.pdf?src-supplier=Future+Electronics; ComponentLink3URL: https://datasheet.octopart.com:443/PH1-12-UA-Adam-Tech-datasheet-189096092.pdf?src-supplier=Master+Electronics; ComponentLink3Description: https://datasheet.octopart.com:443/PH1-12-UA-Adam-Tech-datasheet-189096092.pdf?src-supplier=Master+Electronics; ComponentLink4URL: http://sigma.octopart.com:80/reach_statement/Adam-Tech-company-23.pdf?src-supplier=Compliance+Statements; ComponentLink4Description: http://sigma.octopart.com:80/reach_statement/Adam-Tech-company-23.pdf?src-supplier=Compliance+Statements; ComponentLink5URL: http://sigma.octopart.com:80/rohs_statement/Adam-Tech-company-22.pdf?src-supplier=Compliance+Statements; ComponentLink5Description: http://sigma.octopart.com:80/rohs_statement/Adam-Tech-company-22.pdf?src-supplier=Compliance+Statements
footprint CON_HDR_MAL_VERT_12P_2P54_PITCH
pins: 1, 2, 3, 4, 5, 6, 7, 8, 9, 10, 11, 12

## PH1-13-UA
designator J?
CONN HEADER VERT 13POS 2.54MM; Manufacturer: Adam Tech; Contact Resistance: 20mΩ; Current Rating: 3A; Insulation Resistance: 5GΩ; Supplier: DigiKey; Supplier Part Number: 2057-PH1-13-UA-ND; Manufacturer Part Number: PH1-13-UA; RoHS: Compliant; Category: Card Edge Connectors; Stock: 2521; Pricing: 1=0.17, 10=0.146, 100=0.124, 500=0.11066, 1000=0.10537, 5000=0.09404, 10000=0.08955 (USD); Contact Gender: Male; Contact Material: Brass; Lifecycle Status: Production; Pins: 13; Number of Rows: 1; REACH SVHC: Yes; Schedule B: 8536694040; Terminal Pitch: 2.54mm; ComponentLink1URL: https://datasheet.octopart.com:443/PH1-13-UA-Adam-Tech-datasheet-21182886.pdf?src-supplier=IHS; ComponentLink1Description: https://datasheet.octopart.com:443/PH1-13-UA-Adam-Tech-datasheet-21182886.pdf?src-supplier=IHS; ComponentLink2URL: https://datasheet.octopart.com:443/PH1-13-UA-Adam-Tech-datasheet-189096092.pdf?src-supplier=Master+Electronics; ComponentLink2Description: https://datasheet.octopart.com:443/PH1-13-UA-Adam-Tech-datasheet-189096092.pdf?src-supplier=Master+Electronics; ComponentLink3URL: http://sigma.octopart.com:80/reach_statement/Adam-Tech-company-23.pdf?src-supplier=Compliance+Statements; ComponentLink3Description: http://sigma.octopart.com:80/reach_statement/Adam-Tech-company-23.pdf?src-supplier=Compliance+Statements; ComponentLink4URL: http://sigma.octopart.com:80/rohs_statement/Adam-Tech-company-22.pdf?src-supplier=Compliance+Statements; ComponentLink4Description: http://sigma.octopart.com:80/rohs_statement/Adam-Tech-company-22.pdf?src-supplier=Compliance+Statements
footprint CON_HDR_MAL_VERT_13P_2P54_PITCH
pins: 1, 2, 3, 4, 5, 6, 7, 8, 9, 10, 11, 12, 13

## PH1-14-UA
designator J?
CONN HEADER VERT 14POS 2.54MM; Manufacturer: Adam Tech; Contact Resistance: 20mΩ; Current Rating: 3A; Insulation Resistance: 5GΩ; Supplier: DigiKey; Supplier Part Number: 2057-PH1-14-UA-ND; Manufacturer Part Number: PH1-14-UA; RoHS: Compliant; Category: Card Edge Connectors; Stock: 7936; Pricing: 1=0.19, 10=0.158, 100=0.1345, 500=0.12, 1000=0.11426, 5000=0.10199, 10000=0.09712 (USD); Contact Gender: Male; Contact Material: Brass; Lead Free: Lead Free; Lifecycle Status: Production; Pins: 14; Number of Rows: 1; REACH SVHC: Yes; Terminal Pitch: 2.54mm; ComponentLink1URL: https://datasheet.octopart.com:443/PH1-14-UA-Adam-Tech-datasheet-21182886.pdf?src-supplier=IHS; ComponentLink1Description: https://datasheet.octopart.com:443/PH1-14-UA-Adam-Tech-datasheet-21182886.pdf?src-supplier=IHS; ComponentLink2URL: https://datasheet.octopart.com:443/PH1-14-UA-Adam-Tech-datasheet-500427.pdf?src-supplier=Future+Electronics; ComponentLink2Description: https://datasheet.octopart.com:443/PH1-14-UA-Adam-Tech-datasheet-500427.pdf?src-supplier=Future+Electronics; ComponentLink3URL: https://datasheet.octopart.com:443/PH1-14-UA-Adam-Tech-datasheet-189096092.pdf?src-supplier=Master+Electronics; ComponentLink3Description: https://datasheet.octopart.com:443/PH1-14-UA-Adam-Tech-datasheet-189096092.pdf?src-supplier=Master+Electronics; ComponentLink4URL: http://sigma.octopart.com:80/reach_statement/Adam-Tech-company-23.pdf?src-supplier=Compliance+Statements; ComponentLink4Description: http://sigma.octopart.com:80/reach_statement/Adam-Tech-company-23.pdf?src-supplier=Compliance+Statements; ComponentLink5URL: http://sigma.octopart.com:80/rohs_statement/Adam-Tech-company-22.pdf?src-supplier=Compliance+Statements; ComponentLink5Description: http://sigma.octopart.com:80/rohs_statement/Adam-Tech-company-22.pdf?src-supplier=Compliance+Statements
footprint CON_HDR_MAL_VERT_14P_2P54_PITCH
pins: 1, 2, 3, 4, 5, 6, 7, 8, 9, 10, 11, 12, 13, 14

## PH1-15-UA
designator J?
CONN HEADER VERT 15POS 2.54MM; Manufacturer: Adam Tech; Contact Resistance: 20mΩ; Current Rating: 3A; Insulation Resistance: 5GΩ; Supplier: DigiKey; Supplier Part Number: 2057-PH1-15-UA-ND; Manufacturer Part Number: PH1-15-UA; RoHS: Compliant; Category: Card Edge Connectors; Stock: 5885; Pricing: 1=0.2, 10=0.17, 100=0.1445, 500=0.12892, 1000=0.12275, 5000=0.10956, 10000=0.10433 (USD); Contact Gender: Male; Contact Material: Brass; Lifecycle Status: Production; Pins: 15; Number of Rows: 1; REACH SVHC: Yes; Schedule B: 8536694040, 8536694040|8536694040|8536694040|8536694040|8536694040; Terminal Pitch: 2.54mm; ComponentLink1URL: https://datasheet.octopart.com:443/PH1-15-UA-Adam-Tech-datasheet-21182886.pdf?src-supplier=IHS; ComponentLink1Description: https://datasheet.octopart.com:443/PH1-15-UA-Adam-Tech-datasheet-21182886.pdf?src-supplier=IHS; ComponentLink2URL: https://datasheet.octopart.com:443/PH1-15-UA-Adam-Tech-datasheet-189096092.pdf?src-supplier=Master+Electronics; ComponentLink2Description: https://datasheet.octopart.com:443/PH1-15-UA-Adam-Tech-datasheet-189096092.pdf?src-supplier=Master+Electronics; ComponentLink3URL: http://sigma.octopart.com:80/reach_statement/Adam-Tech-company-23.pdf?src-supplier=Compliance+Statements; ComponentLink3Description: http://sigma.octopart.com:80/reach_statement/Adam-Tech-company-23.pdf?src-supplier=Compliance+Statements; ComponentLink4URL: http://sigma.octopart.com:80/rohs_statement/Adam-Tech-company-22.pdf?src-supplier=Compliance+Statements; ComponentLink4Description: http://sigma.octopart.com:80/rohs_statement/Adam-Tech-company-22.pdf?src-supplier=Compliance+Statements
footprint CON_HDR_MAL_VERT_15P_2P54_PITCH
pins: 1, 2, 3, 4, 5, 6, 7, 8, 9, 10, 11, 12, 13, 14, 15

## PH1-16-UA
designator J?
CONN HEADER VERT 16POS 2.54MM; Manufacturer: Adam Tech; Contact Resistance: 20mΩ; Current Rating: 3A; Insulation Resistance: 5GΩ; Number of Positions: 16; Supplier: DigiKey; Supplier Part Number: 2057-PH1-16-UA-ND; Manufacturer Part Number: PH1-16-UA; RoHS: Compliant; Category: Card Edge Connectors; Stock: 16504; Pricing: 1=0.21, 10=0.177, 100=0.1505, 500=0.13434, 1000=0.12792, 5000=0.11418, 10000=0.10873 (USD); Contact Gender: Male; Contact Material: Brass; Lead Free: Lead Free; Lifecycle Status: Production; Mounting Technology: Through Hole; Pins: 16; Number of Rows: 1; Pitch: 2.54mm; REACH SVHC: Yes; Terminal Pitch: 2.54mm; ComponentLink1URL: https://datasheet.octopart.com:443/PH1-16-UA-Adam-Tech-datasheet-21182886.pdf?src-supplier=IHS; ComponentLink1Description: https://datasheet.octopart.com:443/PH1-16-UA-Adam-Tech-datasheet-21182886.pdf?src-supplier=IHS; ComponentLink2URL: https://datasheet.octopart.com:443/PH1-16-UA-Adam-Tech-datasheet-500427.pdf?src-supplier=Future+Electronics; ComponentLink2Description: https://datasheet.octopart.com:443/PH1-16-UA-Adam-Tech-datasheet-500427.pdf?src-supplier=Future+Electronics; ComponentLink3URL: https://datasheet.octopart.com:443/PH1-16-UA-Adam-Tech-datasheet-189096092.pdf?src-supplier=Master+Electronics; ComponentLink3Description: https://datasheet.octopart.com:443/PH1-16-UA-Adam-Tech-datasheet-189096092.pdf?src-supplier=Master+Electronics; ComponentLink4URL: http://sigma.octopart.com:80/reach_statement/Adam-Tech-company-23.pdf?src-supplier=Compliance+Statements; ComponentLink4Description: http://sigma.octopart.com:80/reach_statement/Adam-Tech-company-23.pdf?src-supplier=Compliance+Statements; ComponentLink5URL: http://sigma.octopart.com:80/rohs_statement/Adam-Tech-company-22.pdf?src-supplier=Compliance+Statements; ComponentLink5Description: http://sigma.octopart.com:80/rohs_statement/Adam-Tech-company-22.pdf?src-supplier=Compliance+Statements
footprint CON_HDR_MAL_VERT_16P_2P54_PITCH
pins: 1, 2, 3, 4, 5, 6, 7, 8, 9, 10, 11, 12, 13, 14, 15, 16